# EAGLE library part LIS-770_ (library Chromation)
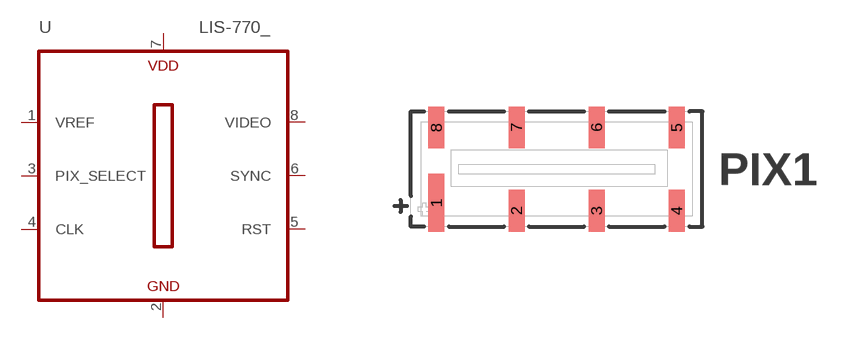
[diagram p4: symbol with the pads of LIS-770; footprint LIS-770]

Designator prefix U

## LIS-770_LCC  [LIS-770]
1  VREF
2  GND
3  PIX_SELECT
4  CLK
5  RST
6  SYNC
7  VDD
8  VIDEO

## Footprint LIS-770 (pad centres in mm)
smd 0.5 x 1.8: 1 -3.75,-1.05
smd 0.5 x 1.3: 2 -1.25,-1.3; 3 1.25,-1.3; 4 3.75,-1.3; 5 3.75,1.3; 6 1.25,1.3; 7 -1.25,1.3; 8 -3.75,1.3